# Altium footprint library Drive_GD32F.PcbLib: 36 footprints (part 3 of 3)
Each footprint in its own frame and in the unit in brackets; x right, y up, seen from the top. Pads: shape width x height; smd on the part's side, far side on the other; paste and mask are expansions set on the pad; w line width, h text height; cw(c..) or ccw(c..) is an arc to the next point about the centre after c.
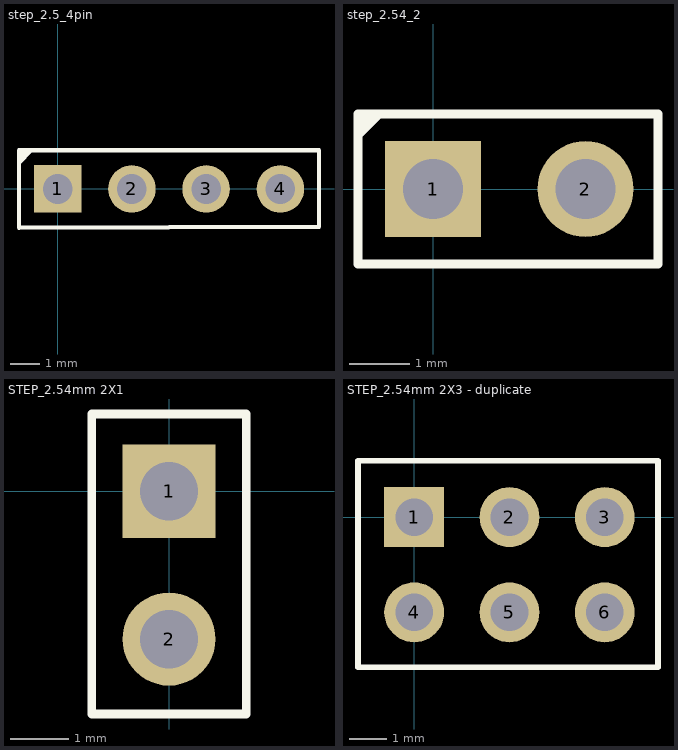
[diagram p2: the footprints below, top view; thin cyan lines are the x and y axes]

## step_2.5_4pin [mm]
pads (4):
  rect 1.6x1.6 hole 1: 1(0,0)
  round 1.6 hole 1: 2(2.5,0) 3(5,0) 4(7.5,0)
Top Overlay:
  region: -0.8,1.3 -1.3,0.8 -1.3,1.3
  lines w0.15: -1.3,-1.302 -1.3,1.3 8.8,1.3 8.8,-1.268 -1.3,-1.302

## step_2.54_2 [mm]
pads (2):
  rect 1.6x1.6 hole 1: 1(0,0)
  round 1.6 hole 1: 2(2.54,0)
Top Overlay:
  region: -0.825,1.25 -0.825,1.225 -1.25,0.8 -1.25,1.25
  lines w0.15: -1.25,-1.25 3.75,-1.25 3.75,1.25 -1.25,1.25 -1.25,-1.25

## STEP_2.54mm 2X1 [mm]
pads (2):
  rect 1.6x1.6 hole 1: 1(0,0)
  round 1.6 hole 1: 2(0,-2.54)
Top Overlay:
  lines w0.15: -1.325,-3.825 -1.325,1.325 1.325,1.325 1.325,-3.825 -1.325,-3.825

## STEP_2.54mm 2X3 - duplicate [mm]
pads (6):
  rect 1.6x1.6 hole 1: 1(0,0)
  round 1.6 hole 1: 2(2.54,0) 3(5.08,0) 4(0,-2.54) 5(2.54,-2.54) 6(5.08,-2.54)
Top Overlay:
  lines w0.15: -1.5,-4 -1.5,1.5 6.5,1.5 6.5,-4 -1.5,-4